# Altium footprint library DI_LED_BICOLOR.PcbLib: 1 footprints
Each footprint in its own frame and in the unit in brackets; x right, y up, seen from the top. Pads: shape width x height; smd on the part's side, far side on the other; paste and mask are expansions set on the pad; w line width, h text height; cw(c..) or ccw(c..) is an arc to the next point about the centre after c.
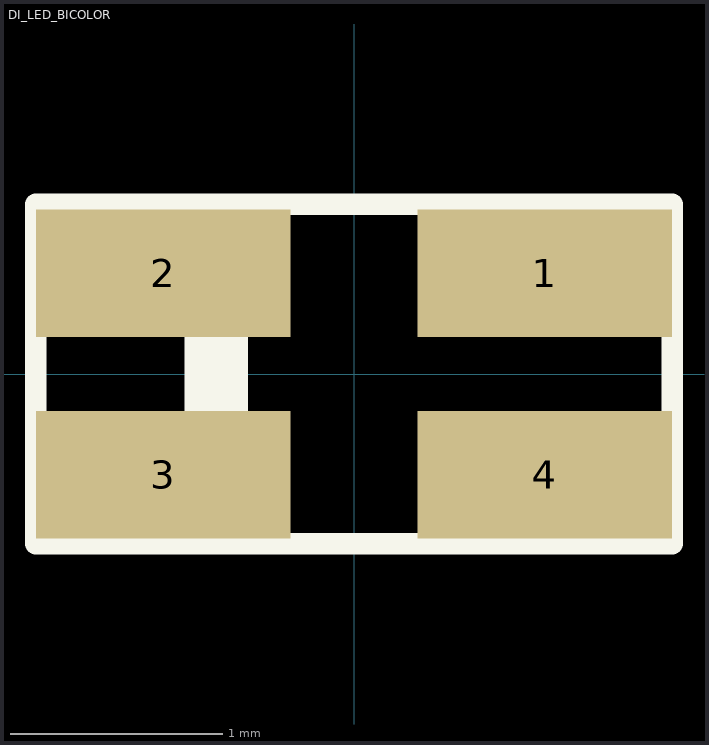
[diagram p0: the footprint, top view; thin cyan lines are the x and y axes]

## DI_LED_BICOLOR [mm]
pads (4):
  rect 1.2x0.6 smd: 1(0.9,0.475) 2(-0.9,0.475) 3(-0.9,-0.475) 4(0.9,-0.475)
Top Overlay:
  region: -0.75,-0.175 -0.5,-0.175 -0.5,0.175 -0.75,0.175
  lines w0.1: -0.75,-0.8 -0.75,0.8 ; -1.5,-0.8 -1.5,0.8 1.5,0.8 1.5,-0.8 -1.5,-0.8